# EAGLE library part PIC18F25K50 (library IRK)
PIC18F25K50
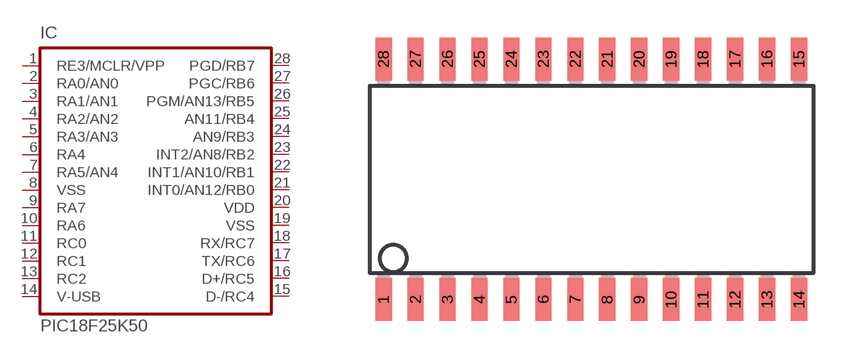
[diagram p2: symbol with the pads of SO28W; footprint SO28W]

Designator prefix IC

## PIC18F25K50SO28W  [SO28W]
1  RE3/MCLR/VPP
2  RA0/AN0
3  RA1/AN1
4  RA2/AN2
5  RA3/AN3
6  RA4
7  RA5/AN4
8  VSS  pwr
9  RA7
10  RA6
11  RC0
12  RC1
13  RC2
14  V-USB
15  D-/RC4
16  D+/RC5
17  TX/RC6
18  RX/RC7
19  VSS  pwr
20  VDD  pwr
21  INT0/AN12/RB0
22  INT1/AN10/RB1
23  INT2/AN8/RB2
24  AN9/RB3
25  AN11/RB4
26  PGM/AN13/RB5
27  PGC/RB6
28  PGD/RB7

## Footprint SO28W (pad centres in mm)
28-Lead Plastic Small Outline (SO) Wide, 300 mil Body (SOIC) Source: http://ww1.microchip.com/downloads/en/devicedoc/39632c.pdf
smd 0.65 x 1.7: 1 -7.62,-4.78; 2 -6.35,-4.78; 3 -5.08,-4.78; 4 -3.81,-4.78; 5 -2.54,-4.78; 6 -1.27,-4.78; 7 0,-4.78; 8 1.27,-4.78; 9 2.54,-4.78; 10 3.81,-4.78; 11 5.08,-4.78; 12 6.35,-4.78; 13 7.62,-4.78; 14 8.89,-4.78; 15 8.89,4.78; 16 7.62,4.78; 17 6.35,4.78; 18 5.08,4.78; 19 3.81,4.78; 20 2.54,4.78; 21 1.27,4.78; 22 0,4.78; 23 -1.27,4.78; 24 -2.54,4.78; 25 -3.81,4.78; 26 -5.08,4.78; 27 -6.35,4.78; 28 -7.62,4.78